# EAGLE library part MAX213IDBR (library ti-max213)
RS-232 LINE DRIVER/RECEIVER
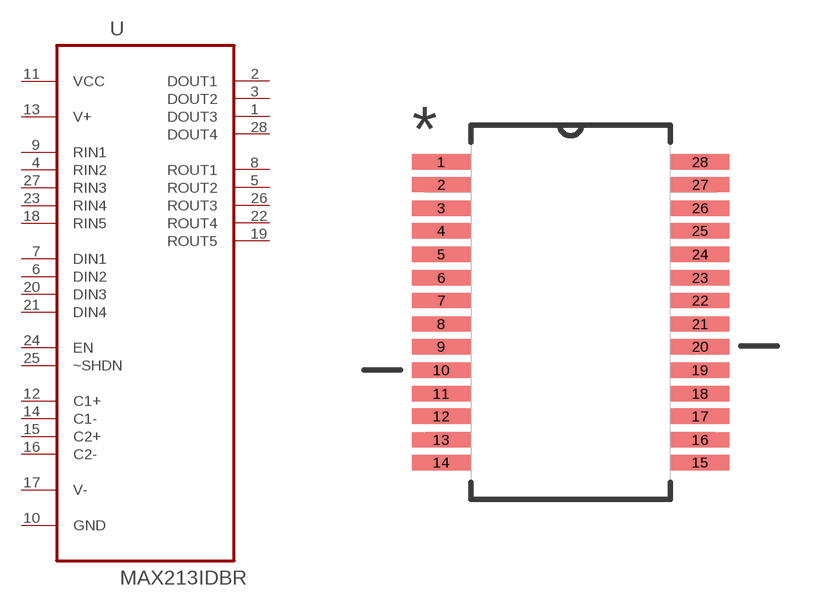
[diagram p0: symbol with the pads of SOP65P780X200-28N; footprint SOP65P780X200-28N]

Designator prefix U

## MAX213IDBR (MPN: MAX213IDBR; OC_FARNELL: 1575352; OC_NEWARK: 71K6673; PACKAGE: TSSOP-28; SUPPLIER: TEXAS INSTRUMENTS)  [SOP65P780X200-28N]
1  DOUT3  out
2  DOUT1  out
3  DOUT2  out
4  RIN2  in
5  ROUT2  out
6  DIN2  in
7  DIN1  in
8  ROUT1  out
9  RIN1  in
10  GND  pas
11  VCC  pwr
12  C1+  in
13  V+  out
14  C1-  in
15  C2+  in
16  C2-  in
17  V-  in
18  RIN5  in
19  ROUT5  out
20  DIN3  in
21  DIN4  in
22  ROUT4  out
23  RIN4  in
24  EN  in
25  ~SHDN  in
26  ROUT3  out
27  RIN3  in
28  DOUT4  out

## Footprint SOP65P780X200-28N (pad centres in mm)
smd 1.651 x 0.432: 1 -3.632,4.216; 2 -3.632,3.581; 3 -3.632,2.921; 4 -3.632,2.286; 5 -3.632,1.626; 6 -3.632,0.965; 7 -3.632,0.33; 8 -3.632,-0.33; 9 -3.632,-0.965; 10 -3.632,-1.626; 11 -3.632,-2.286; 12 -3.632,-2.921; 13 -3.632,-3.581; 14 -3.632,-4.216; 15 3.632,-4.216; 16 3.632,-3.581; 17 3.632,-2.921; 18 3.632,-2.286; 19 3.632,-1.626; 20 3.632,-0.965; 21 3.632,-0.33; 22 3.632,0.33; 23 3.632,0.965; 24 3.632,1.626; 25 3.632,2.286; 26 3.632,2.921; 27 3.632,3.581; 28 3.632,4.216